# Altium footprint library chip.PcbLib: 89 footprints (part 2 of 6)
Each footprint in its own frame and in the unit in brackets; x right, y up, seen from the top. Pads: shape width x height; smd on the part's side, far side on the other; paste and mask are expansions set on the pad; w line width, h text height; cw(c..) or ccw(c..) is an arc to the next point about the centre after c.
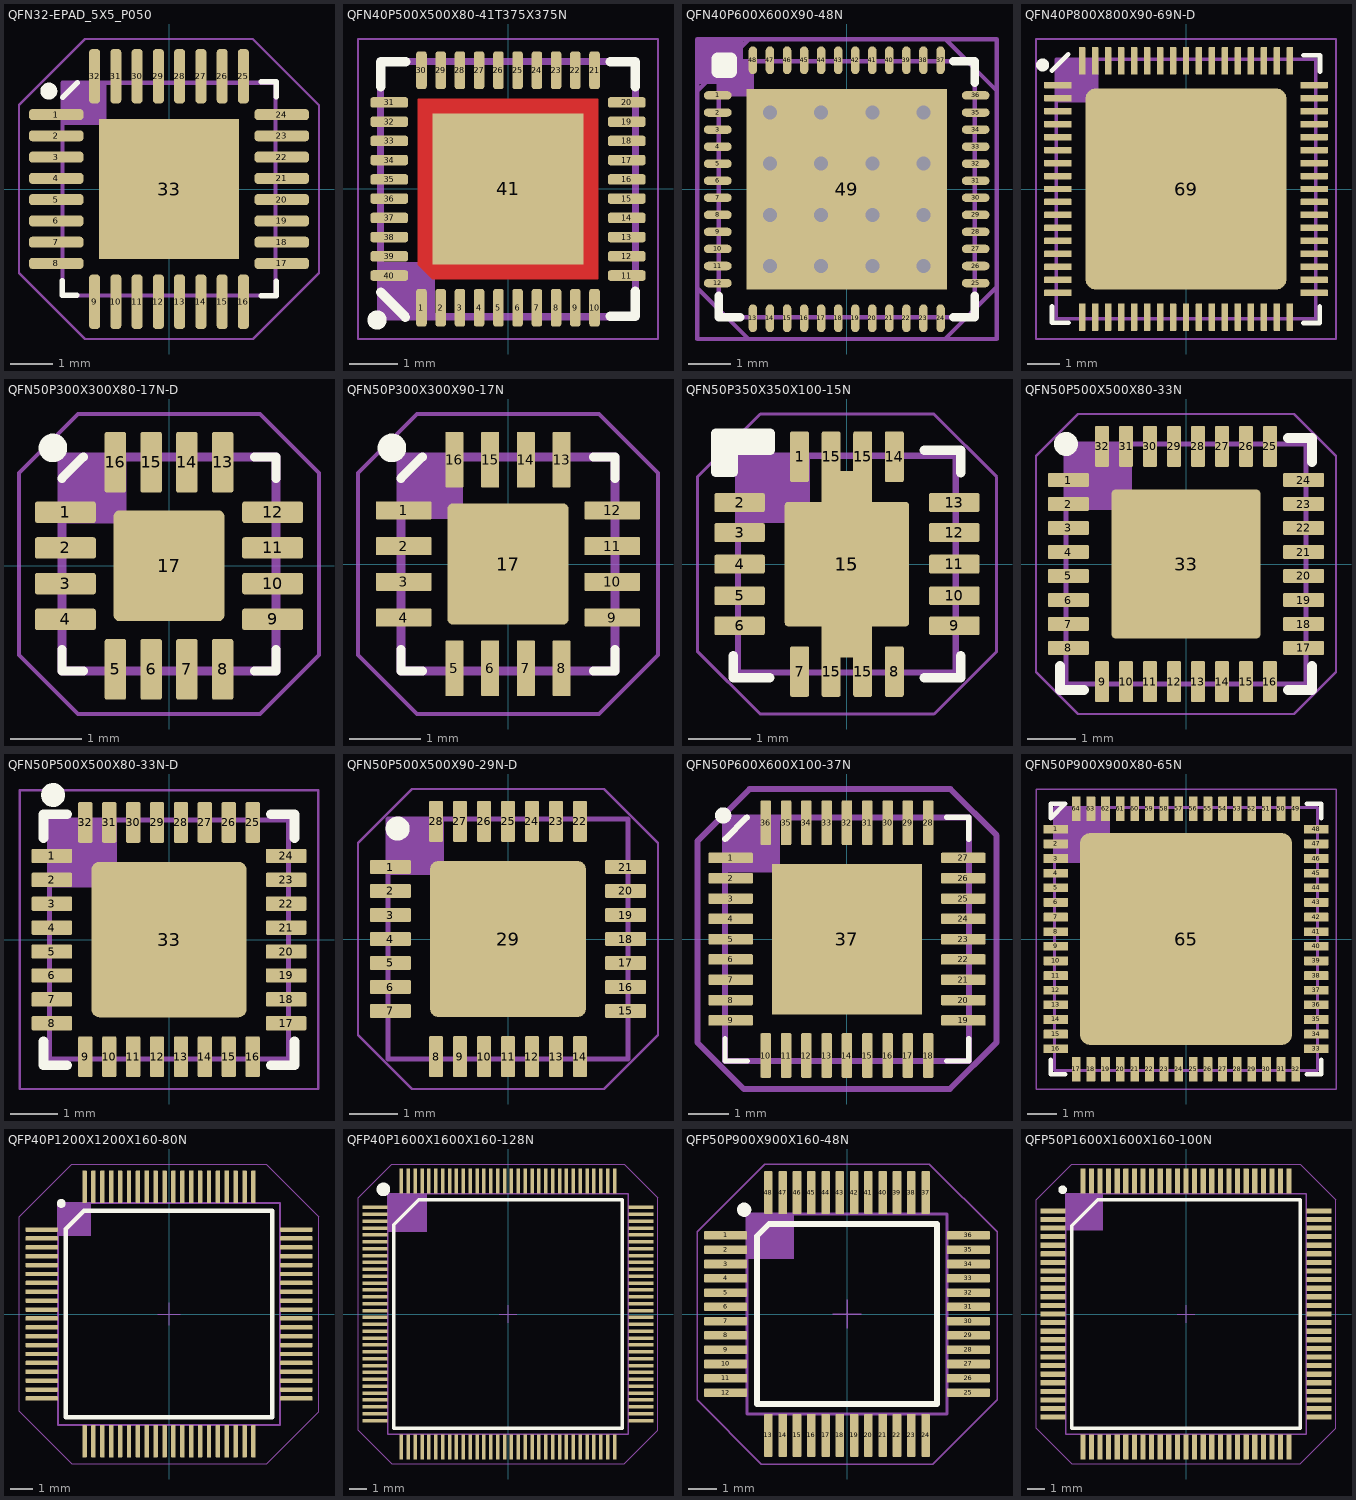
[diagram p1: the footprints below, top view; thin cyan lines are the x and y axes]

## QFN32-EPAD_5X5_P050 [mm] "QFN50P500X500X100-33N"
pads (33):
  rrect70% 1.29x0.26 smd: 1(-2.65,1.75) 2(-2.65,1.25) 3(-2.65,0.75) 4(-2.65,0.25) 5(-2.65,-0.25) 6(-2.65,-0.75) 7(-2.65,-1.25) 8(-2.65,-1.75) 17(2.65,-1.75) 18(2.65,-1.25) 19(2.65,-0.75) 20(2.65,-0.25) 21(2.65,0.25) 22(2.65,0.75) 23(2.65,1.25) 24(2.65,1.75)
  rrect70% 0.26x1.29 smd: 9(-1.75,-2.65) 10(-1.25,-2.65) 11(-0.75,-2.65) 12(-0.25,-2.65) 13(0.25,-2.65) 14(0.75,-2.65) 15(1.25,-2.65) 16(1.75,-2.65) 25(1.75,2.65) 26(1.25,2.65) 27(0.75,2.65) 28(0.25,2.65) 29(-0.25,2.65) 30(-0.75,2.65) 31(-1.25,2.65) 32(-1.75,2.65)
  rect 3.3x3.3 smd paste-0.497: 33(0,0)
Top Overlay:
  circle w0.2: c-2.825,2.3 r0.1
  lines w0.127: -2.513,-2.15 -2.513,-2.5 -2.163,-2.5 ; -2.5,2.15 -2.15,2.5 ; 2.171,2.519 2.521,2.519 2.521,2.169 ; 2.172,-2.511 2.522,-2.511 2.522,-2.161
Top Designator:
  text ".Designator" at -3.024,3.825 h0.6
Top Assembly:
  rectangle: -2.5,1.505 -1.47,2.5
  lines w0.1: -2.5,-2.5 -2.5,2.5 2.5,2.5 2.5,-2.5 -2.5,-2.5
Top Courtyard:
  lines w0.05: -0.5,0 0.5,0 ; 0,-0.5 0,0.5 ; -3.525,-1.975 -1.976,-3.524 1.976,-3.524 3.525,-1.975 3.525,1.968 1.968,3.525 -1.975,3.525 -3.525,1.975 -3.525,-1.975
3D body "step_temp.STEP": height 1, standoff 0, extent -2.5,-2.5 2.5,2.5

## QFN40P500X500X80-41T375X375N [mm]
pads (41):
  rrect55% 0.22x0.79 smd: 1(-1.8,-2.47) 2(-1.4,-2.47) 3(-1,-2.47) 4(-0.6,-2.47) 5(-0.2,-2.47) 6(0.2,-2.47) 7(0.6,-2.47) 8(1,-2.47) 9(1.4,-2.47) 10(1.8,-2.47) 21(1.8,2.47) 22(1.4,2.47) 23(1,2.47) 24(0.6,2.47) 25(0.2,2.47) 26(-0.2,2.47) 27(-0.6,2.47) 28(-1,2.47) 29(-1.4,2.47) 30(-1.8,2.47)
  rrect55% 0.79x0.22 smd: 11(2.47,-1.8) 12(2.47,-1.4) 13(2.47,-1) 14(2.47,-0.6) 15(2.47,-0.2) 16(2.47,0.2) 17(2.47,0.6) 18(2.47,1) 19(2.47,1.4) 20(2.47,1.8) 31(-2.47,1.8) 32(-2.47,1.4) 33(-2.47,1) 34(-2.47,0.6) 35(-2.47,0.2) 36(-2.47,-0.2) 37(-2.47,-0.6) 38(-2.47,-1) 39(-2.47,-1.4) 40(-2.47,-1.8)
  rect 3.15x3.15 smd paste-3.15 mask-3.15: 41(0,0)
Top Layer:
  region: 1.875,-1.875 -1.575,-1.875 -1.875,-1.575 -1.875,1.875 1.875,1.875
Top Overlay:
  circle w0.2: c-2.725,-2.725 r0.1
  lines w0.2: -2.65,2.13 -2.65,2.65 -2.13,2.65 ; -2.65,-2.144 -2.135,-2.665 ; 2.13,-2.65 2.65,-2.65 2.65,-2.13 ; 2.13,2.65 2.65,2.65 2.65,2.13
Top Paste:
  region: -0.185,0.185 -1.515,0.185 -1.515,1.515 -0.185,1.515
  region: -0.185,-1.515 -1.515,-1.515 -1.515,-0.185 -0.185,-0.185
  region: 1.515,0.185 0.185,0.185 0.185,1.515 1.515,1.515
  region: 1.515,-1.515 0.185,-1.515 0.185,-0.185 1.515,-0.185
Top Solder:
  region: 1.875,-1.875 -1.575,-1.875 -1.875,-1.575 -1.875,1.875 1.875,1.875
Top Designator:
  text ".Designator" at -2.924,3.475 h0.6
Top Assembly:
  rectangle: -2.65,-2.657 -1.515,-1.515
  lines w0.15: -2.65,-2.657 -2.65,2.65 2.65,2.65 2.65,-2.657 -2.65,-2.657
Top Courtyard:
  lines w0.05: -0.35,0 0.35,0 ; 0,-0.35 0,0.35 ; -3.12,-3.12 3.12,-3.12 3.12,3.12 -3.12,3.12 -3.12,-3.12
3D body "ACT8945AQJ305-T.stp": height 0.8, standoff 0, extent -2.55,-2.55 2.55,2.55

## QFN40P600X600X90-48N [mm]
pads (49):
  oval 0.65x0.2 smd: 1(-3.025,2.2) 2(-3.025,1.8) 3(-3.025,1.4) 4(-3.025,1) 5(-3.025,0.6) 6(-3.025,0.2) 7(-3.025,-0.2) 8(-3.025,-0.6) 9(-3.025,-1) 10(-3.025,-1.4) 11(-3.025,-1.8) 12(-3.025,-2.2) 25(3.025,-2.2) 26(3.025,-1.8) 27(3.025,-1.4) 28(3.025,-1) 29(3.025,-0.6) 30(3.025,-0.2) 31(3.025,0.2) 32(3.025,0.6) 33(3.025,1) 34(3.025,1.4) 35(3.025,1.8) 36(3.025,2.2)
  oval 0.2x0.65 smd: 13(-2.2,-3.025) 14(-1.8,-3.025) 15(-1.4,-3.025) 16(-1,-3.025) 17(-0.6,-3.025) 18(-0.2,-3.025) 19(0.2,-3.025) 20(0.6,-3.025) 21(1,-3.025) 22(1.4,-3.025) 23(1.8,-3.025) 24(2.2,-3.025) 37(2.2,3.025) 38(1.8,3.025) 39(1.4,3.025) 40(1,3.025) 41(0.6,3.025) 42(0.2,3.025) 43(-0.2,3.025) 44(-0.6,3.025) 45(-1,3.025) 46(-1.4,3.025) 47(-1.8,3.025) 48(-2.2,3.025)
  rect 4.7x4.7 smd: 49(0,0)
via -1.8,1.8 diameter 0.66 hole 0.33
via -0.6,1.8 diameter 0.66 hole 0.33
via 0.6,1.8 diameter 0.66 hole 0.33
via 1.8,1.8 diameter 0.66 hole 0.33
via -1.8,0.6 diameter 0.66 hole 0.33
via -0.6,0.6 diameter 0.66 hole 0.33
via 0.6,0.6 diameter 0.66 hole 0.33
via 1.8,0.6 diameter 0.66 hole 0.33
via -1.8,-0.6 diameter 0.66 hole 0.33
via -0.6,-0.6 diameter 0.66 hole 0.33
via 0.6,-0.6 diameter 0.66 hole 0.33
via 1.8,-0.6 diameter 0.66 hole 0.33
via -1.8,-1.8 diameter 0.66 hole 0.33
via -0.6,-1.8 diameter 0.66 hole 0.33
via 0.6,-1.8 diameter 0.66 hole 0.33
via 1.8,-1.8 diameter 0.66 hole 0.33
Top Overlay:
  lines w0.2: -3,-2.5 -3,-3 -2.5,-3 ; 2.5,-3 3,-3 3,-2.5 ; 2.5,3 3,3 3,2.5
  lines w0.3: -3.024,2.757 -3.024,3.06 -2.726,3.06 -2.726,2.757 -3.024,2.757
Bottom Dimensions:
  rectangle: -3.506,2.474 -2.431,3.524
  lines w0.1: -3.503,-3.511 -3.503,3.518 3.519,3.518 3.519,-3.511 -3.503,-3.511
Top Assembly:
  rectangle: -3.011,2.17 -2.17,3.005
  lines w0.1: -3,-3 -3,3 3,3 3,-3 -3,-3
Top Courtyard:
  lines w0.1: -0.5,0 0.5,0 ; 0,-0.5 0,0.5 ; -3.504,-2.313 -2.306,-3.512 2.301,-3.512 3.515,-2.298 3.515,2.317 2.315,3.517 -2.295,3.517 -3.504,2.308 -3.504,-2.313
3D body "User Library-QFN48.step": height 0.86, standoff -0.01, extent -3.02,-3.02 3.02,3.02

## QFN40P800X800X90-69N-D [mm]
pads (69):
  rrect20% 0.85x0.2 smd: 1(-3.95,3.2) 2(-3.95,2.8) 3(-3.95,2.4) 4(-3.95,2) 5(-3.95,1.6) 6(-3.95,1.2) 7(-3.95,0.8) 8(-3.95,0.4) 9(-3.95,0) 10(-3.95,-0.4) 11(-3.95,-0.8) 12(-3.95,-1.2) 13(-3.95,-1.6) 14(-3.95,-2) 15(-3.95,-2.4) 16(-3.95,-2.8) 17(-3.95,-3.2) 35(3.95,-3.2) 36(3.95,-2.8) 37(3.95,-2.4) 38(3.95,-2) 39(3.95,-1.6) 40(3.95,-1.2) 41(3.95,-0.8) 42(3.95,-0.4) 43(3.95,0) 44(3.95,0.4) 45(3.95,0.8) 46(3.95,1.2) 47(3.95,1.6) 48(3.95,2) 49(3.95,2.4) 50(3.95,2.8) 51(3.95,3.2)
  rrect20% 0.2x0.85 smd: 18(-3.2,-3.95) 19(-2.8,-3.95) 20(-2.4,-3.95) 21(-2,-3.95) 22(-1.6,-3.95) 23(-1.2,-3.95) 24(-0.8,-3.95) 25(-0.4,-3.95) 26(0,-3.95) 27(0.4,-3.95) 28(0.8,-3.95) 29(1.2,-3.95) 30(1.6,-3.95) 31(2,-3.95) 32(2.4,-3.95) 33(2.8,-3.95) 34(3.2,-3.95) 52(3.2,3.95) 53(2.8,3.95) 54(2.4,3.95) 55(2,3.95) 56(1.6,3.95) 57(1.2,3.95) 58(0.8,3.95) 59(0.4,3.95) 60(0,3.95) 61(-0.4,3.95) 62(-0.8,3.95) 63(-1.2,3.95) 64(-1.6,3.95) 65(-2,3.95) 66(-2.4,3.95) 67(-2.8,3.95) 68(-3.2,3.95)
  rrect10% 6.2x6.2 smd: 69(0,0)
Top Overlay:
  circle w0.2: c-4.421,3.824 r0.1
  lines w0.15: -4.135,3.65 -3.631,4.155 ; -4.128,-3.626 -4.128,-4.126 -3.628,-4.126 ; 3.626,-4.128 4.126,-4.128 4.126,-3.628 ; 3.628,4.126 4.128,4.126 4.128,3.626
Top Designator:
  text ".Designator" at -2.986,5.047 h0.6
Top Assembly:
  rectangle: -4,2.66 -2.695,4
  lines w0.1: -4,-4 -4,4 4,4 4,-4 -4,-4
Top Courtyard:
  lines w0.05: -0.5,0 0.5,0 ; 0,-0.475 0,0.525 ; -4.625,-4.625 4.625,-4.625 4.625,4.625 -4.625,4.625 -4.625,-4.625
3D body "UPD720201K8-711-BAC-A.stp": height 0.9, standoff 0, extent -4.05,-4.05 4.05,4.05

## QFN50P300X300X80-17N-D [mm]
pads (17):
  rrect20% 0.85x0.3 smd: 1(-1.45,0.75) 2(-1.45,0.25) 3(-1.45,-0.25) 4(-1.45,-0.75) 9(1.45,-0.75) 10(1.45,-0.25) 11(1.45,0.25) 12(1.45,0.75)
  rrect20% 0.3x0.85 smd: 5(-0.75,-1.45) 6(-0.25,-1.45) 7(0.25,-1.45) 8(0.75,-1.45) 13(0.75,1.45) 14(0.25,1.45) 15(-0.25,1.45) 16(-0.75,1.45)
  rrect10% 1.55x1.55 smd: 17(0,0)
Top Overlay:
  circle w0.2: c-1.625,1.65 r0.1
  lines w0.127: -1.5,-1.175 -1.5,-1.475 -1.2,-1.475 ; -1.5,1.225 -1.2,1.525 ; 1.2,-1.475 1.5,-1.475 1.5,-1.175 ; 1.2,1.525 1.5,1.525 1.5,1.225
Top Designator:
  text ".Designator" at -2.949,2.5 h0.6
Top Assembly:
  rectangle: -1.5,0.595 -0.595,1.525
  lines w0.127: -1.5,-1.475 -1.5,1.525 1.5,1.525 1.5,-1.475 -1.5,-1.475
Top Courtyard:
  lines w0.05: -0.5,0 0.5,0 ; 0,-0.475 0,0.525 ; -2.1,-1.25 -2.1,1.3 -1.275,2.125 1.275,2.125 2.1,1.3 2.1,-1.25 1.275,-2.075 -1.275,-2.075 -2.1,-1.25
3D body "LTC6400IUD-26#TRPBF.stp": height 0.8, standoff 0, extent -1.55,-1.55 1.55,1.55

## QFN50P300X300X90-17N [mm]
pads (17):
  rrect10% 0.78x0.25 smd paste+0 mask+0.05: 1(-1.46,0.75) 2(-1.46,0.25) 3(-1.46,-0.25) 4(-1.46,-0.75) 9(1.46,-0.75) 10(1.46,-0.25) 11(1.46,0.25) 12(1.46,0.75)
  rrect10% 0.25x0.78 smd paste+0 mask+0.05: 5(-0.75,-1.46) 6(-0.25,-1.46) 7(0.25,-1.46) 8(0.75,-1.46) 13(0.75,1.46) 14(0.25,1.46) 15(-0.25,1.46) 16(-0.75,1.46)
  rrect10% 1.7x1.7 smd paste-0.312 mask+0.05: 17(0,0)
Top Overlay:
  circle w0.2: c-1.625,1.625 r0.1
  lines w0.127: -1.5,-1.2 -1.5,-1.5 -1.2,-1.5 ; -1.5,1.2 -1.2,1.5 ; 1.2,-1.5 1.5,-1.5 1.5,-1.2 ; 1.2,1.5 1.5,1.5 1.5,1.2
Top Designator:
  text ".Designator" at -3.124,2.5 h0.6
Top Assembly:
  rectangle: -1.5,0.63 -0.63,1.5
  lines w0.127: -1.5,-1.5 -1.5,1.5 1.5,1.5 1.5,-1.5 -1.5,-1.5
Top Courtyard:
  lines w0.05: -0.5,0 0.5,0 ; 0,-0.5 0,0.5 ; -2.1,-1.275 -2.1,1.275 -1.275,2.1 1.275,2.1 2.1,1.275 2.1,-1.275 1.275,-2.1 -1.275,-2.1 -2.1,-1.275
3D body "XR75100EL-F--3DModel-STEP-510211.STEP": height 0.9, standoff 0, extent -1.5,-1.5 1.5,1.5

## QFN50P350X350X100-15N [mil]
pads (20):
  rrect20% 12x32 smd: 1(-30,68) 7(-30,-68) 8(30,-68) 14(30,68) 15(-10,-68) 15(-10,68) 15(10,-68) 15(10,68)
  rrect20% 32x12 smd: 2(-68,39) 3(-68,20) 4(-68,0) 5(-68,-20) 6(-68,-39) 9(68,-39) 10(68,-20) 11(68,0) 12(68,20) 13(68,39)
  rrect5% 78.74x78.74 smd: 15(0,0)
  rrect20% 31.89x118.11 smd: 15(0,0)
Top Overlay:
  lines w6: -72,-58 -72,-72 -49,-72 ; 49,-72 72,-72 72,-58 ; 49,72 72,72 72,58 ; -83.02,58.13 -72,58.13 -72,72 -48.62,72 -48.62,83.02 -83.02,83.02 -83.02,58.13
  lines w7.87: -77.51,63.51 -77.51,77.51 -54.51,77.51
Top Designator:
  text ".Designator" at -118.07,103.74 h23.62
Top Assembly:
  rectangle: -68.9,26.18 -23.43,68.69
  lines w3.94: -68.9,-68.57 -68.9,68.69 68.9,68.69 68.9,-68.57 -68.9,-68.57
Top Courtyard:
  lines w1.97: -19.68,0 19.68,0 ; 0,-19.68 0,19.69 ; -94.7,-55.16 -54.98,-94.87 55.2,-94.87 94.8,-55.27 94.8,55.31 55.02,95.08 -54.8,95.08 -94.7,55.18 -94.7,-55.16
3D body "TPP206080-QFMR-S.stp": height 35.43, standoff -1.97, extent -68.9,-68.89 68.9,68.9

## QFN50P500X500X80-33N [mm]
pads (33):
  rrect20% 0.85x0.3 smd: 1(-2.45,1.75) 2(-2.45,1.25) 3(-2.45,0.75) 4(-2.45,0.25) 5(-2.45,-0.25) 6(-2.45,-0.75) 7(-2.45,-1.25) 8(-2.45,-1.75) 17(2.45,-1.75) 18(2.45,-1.25) 19(2.45,-0.75) 20(2.45,-0.25) 21(2.45,0.25) 22(2.45,0.75) 23(2.45,1.25) 24(2.45,1.75)
  rrect20% 0.3x0.85 smd: 9(-1.75,-2.45) 10(-1.25,-2.45) 11(-0.75,-2.45) 12(-0.25,-2.45) 13(0.25,-2.45) 14(0.75,-2.45) 15(1.25,-2.45) 16(1.75,-2.45) 25(1.75,2.45) 26(1.25,2.45) 27(0.75,2.45) 28(0.25,2.45) 29(-0.25,2.45) 30(-0.75,2.45) 31(-1.25,2.45) 32(-1.75,2.45)
  rrect5% 3.1x3.1 smd: 33(0,0)
Top Overlay:
  circle w0.25: c-2.5,2.5 r0.125
  lines w0.2: -2.625,-2.125 -2.625,-2.625 -2.125,-2.625 ; 2.125,-2.625 2.625,-2.625 2.625,-2.125 ; 2.125,2.625 2.625,2.625 2.625,2.125
Top Designator:
  text ".Designator" at -2.974,3.425 h0.6
Top Assembly:
  rectangle: -2.5,1.12 -1.12,2.5
  lines w0.1: -2.5,-2.5 -2.5,2.5 2.5,2.5 2.5,-2.5 -2.5,-2.5
Top Courtyard:
  lines w0.05: -0.35,0 0.35,0 ; 0,-0.35 0,0.35 ; -3.125,-2.25 -3.125,2.25 -2.25,3.125 2.25,3.125 3.125,2.25 3.125,-2.25 2.25,-3.125 -2.25,-3.125 -3.125,-2.25
3D body "MAX5980AGTJ+.stp": height 0.8, standoff 0, extent -2.55,-2.55 2.55,2.55

## QFN50P500X500X80-33N-D [mm]
pads (33):
  rrect20% 0.85x0.3 smd: 1(-2.45,1.75) 2(-2.45,1.25) 3(-2.45,0.75) 4(-2.45,0.25) 5(-2.45,-0.25) 6(-2.45,-0.75) 7(-2.45,-1.25) 8(-2.45,-1.75) 17(2.45,-1.75) 18(2.45,-1.25) 19(2.45,-0.75) 20(2.45,-0.25) 21(2.45,0.25) 22(2.45,0.75) 23(2.45,1.25) 24(2.45,1.75)
  rrect20% 0.3x0.85 smd: 9(-1.75,-2.45) 10(-1.25,-2.45) 11(-0.75,-2.45) 12(-0.25,-2.45) 13(0.25,-2.45) 14(0.75,-2.45) 15(1.25,-2.45) 16(1.75,-2.45) 25(1.75,2.45) 26(1.25,2.45) 27(0.75,2.45) 28(0.25,2.45) 29(-0.25,2.45) 30(-0.75,2.45) 31(-1.25,2.45) 32(-1.75,2.45)
  rrect10% 3.25x3.25 smd: 33(0,0)
Top Overlay:
  circle w0.25: c-2.425,3.025 r0.125
  lines w0.2: -2.625,-2.125 -2.625,-2.625 -2.125,-2.625 ; -2.625,2.125 -2.625,2.625 -2.125,2.625 ; 2.125,-2.625 2.625,-2.625 2.625,-2.125 ; 2.125,2.625 2.625,2.625 2.625,2.125
Top Designator:
  text ".Designator" at -3.024,3.425 h0.6
Top Assembly:
  rectangle: -2.5,1.085 -1.085,2.5
  lines w0.1: -2.5,-2.5 -2.5,2 -2.5,2.5 2.5,2.5 2.5,-2.5 -2.5,-2.5
Top Courtyard:
  lines w0.05: -0.35,0 0.35,0 ; 0,-0.35 0,0.35 ; -3.125,-3.125 3.125,-3.125 3.125,3.125 -3.125,3.125 -3.125,-3.125
3D body "AD9744ACPZ.stp": height 0.8, standoff 0, extent -2.55,-2.55 2.55,2.55

## QFN50P500X500X90-29N-D [mm]
pads (29):
  rrect20% 0.85x0.3 smd: 1(-2.45,1.5) 2(-2.45,1) 3(-2.45,0.5) 4(-2.45,0) 5(-2.45,-0.5) 6(-2.45,-1) 7(-2.45,-1.5) 15(2.45,-1.5) 16(2.45,-1) 17(2.45,-0.5) 18(2.45,0) 19(2.45,0.5) 20(2.45,1) 21(2.45,1.5)
  rrect20% 0.3x0.85 smd: 8(-1.5,-2.45) 9(-1,-2.45) 10(-0.5,-2.45) 11(0,-2.45) 12(0.5,-2.45) 13(1,-2.45) 14(1.5,-2.45) 22(1.5,2.45) 23(1,2.45) 24(0.5,2.45) 25(0,2.45) 26(-0.5,2.45) 27(-1,2.45) 28(-1.5,2.45)
  rrect10% 3.25x3.25 smd: 29(0,0)
Top Overlay:
  circle w0.25: c-2.3,2.3 r0.125
Top Designator:
  text ".Designator" at -3.024,3.45 h0.6
Top Assembly:
  rectangle: -2.5,1.33 -1.33,2.5
  lines w0.1: -2.5,-2.5 -2.5,2 -2.5,2.5 2.5,2.5 2.5,-2.5 -2.5,-2.5
Top Courtyard:
  lines w0.05: -0.5,0 0.5,0 ; 0,-0.5 0,0.5 ; -3.125,-2 -2,-3.125 2,-3.125 3.125,-2 3.125,2 2,3.125 -2,3.125 -3.125,2 -3.125,-2
3D body "MCP251863T-E_9PX.stp": height 0.9, standoff 0, extent -2.55,-2.55 2.55,2.55

## QFN50P600X600X100-37N [mm]
height 1
pads (37):
  rrect25% 1.1x0.26 smd: 1(-2.865,2) 2(-2.865,1.5) 3(-2.865,1) 4(-2.865,0.5) 5(-2.865,0) 6(-2.865,-0.5) 7(-2.865,-1) 8(-2.865,-1.5) 9(-2.865,-2) 19(2.865,-2) 20(2.865,-1.5) 21(2.865,-1) 22(2.865,-0.5) 23(2.865,0) 24(2.865,0.5) 25(2.865,1) 26(2.865,1.5) 27(2.865,2)
  rrect25% 0.26x1.1 smd: 10(-2,-2.865) 11(-1.5,-2.865) 12(-1,-2.865) 13(-0.5,-2.865) 14(0,-2.865) 15(0.5,-2.865) 16(1,-2.865) 17(1.5,-2.865) 18(2,-2.865) 28(2,2.865) 29(1.5,2.865) 30(1,2.865) 31(0.5,2.865) 32(0,2.865) 33(-0.5,2.865) 34(-1,2.865) 35(-1.5,2.865) 36(-2,2.865)
  rect 3.7x3.7 smd paste-0.68: 37(0,0)
Top Overlay:
  circle w0.2: c-3.048,3.048 r0.1
  lines w0.127: -3,-2.45 -3,-3 -2.45,-3 ; 2.45,-3 3,-3 3,-2.45 ; 2.45,3 3,3 3,2.45
  lines w0.15: -3,2.465 -2.465,3
Top Designator:
  text ".Designator" at -2.649,4.175 h0.6
Top Assembly:
  rectangle: -2.965,1.645 -1.645,3
  lines w0.15: -3,-3 -3,3 3,3 3,-3 -3,-3
Top Courtyard:
  lines w0.05: -0.5,0 0.5,0 ; 0,-0.5 0,0.5
  lines w0.15: -3.683,-2.544 -2.537,-3.69 2.535,-3.69 3.685,-2.54 3.685,2.555 2.543,3.698 -2.398,3.698 -3.683,2.413 -3.683,-2.544
3D body "step_temp.STEP": height 1, standoff 0, extent -3,-3 3,3

## QFN50P900X900X80-65N [mm]
pads (65):
  rrect20% 0.85x0.3 smd: 1(-4.45,3.75) 2(-4.45,3.25) 3(-4.45,2.75) 4(-4.45,2.25) 5(-4.45,1.75) 6(-4.45,1.25) 7(-4.45,0.75) 8(-4.45,0.25) 9(-4.45,-0.25) 10(-4.45,-0.75) 11(-4.45,-1.25) 12(-4.45,-1.75) 13(-4.45,-2.25) 14(-4.45,-2.75) 15(-4.45,-3.25) 16(-4.45,-3.75) 33(4.45,-3.75) 34(4.45,-3.25) 35(4.45,-2.75) 36(4.45,-2.25) 37(4.45,-1.75) 38(4.45,-1.25) 39(4.45,-0.75) 40(4.45,-0.25) 41(4.45,0.25) 42(4.45,0.75) 43(4.45,1.25) 44(4.45,1.75) 45(4.45,2.25) 46(4.45,2.75) 47(4.45,3.25) 48(4.45,3.75)
  rrect20% 0.3x0.85 smd: 17(-3.75,-4.45) 18(-3.25,-4.45) 19(-2.75,-4.45) 20(-2.25,-4.45) 21(-1.75,-4.45) 22(-1.25,-4.45) 23(-0.75,-4.45) 24(-0.25,-4.45) 25(0.25,-4.45) 26(0.75,-4.45) 27(1.25,-4.45) 28(1.75,-4.45) 29(2.25,-4.45) 30(2.75,-4.45) 31(3.25,-4.45) 32(3.75,-4.45) 49(3.75,4.45) 50(3.25,4.45) 51(2.75,4.45) 52(2.25,4.45) 53(1.75,4.45) 54(1.25,4.45) 55(0.75,4.45) 56(0.25,4.45) 57(-0.25,4.45) 58(-0.75,4.45) 59(-1.25,4.45) 60(-1.75,4.45) 61(-2.25,4.45) 62(-2.75,4.45) 63(-3.25,4.45) 64(-3.75,4.45)
  rrect10% 7.25x7.25 smd: 65(0,0)
Top Overlay:
  lines w0.15: -4.626,-4.127 -4.625,-4.625 -4.127,-4.624 ; 4.127,-4.626 4.625,-4.625 4.624,-4.127 ; 4.127,4.624 4.625,4.625 4.626,4.127 ; -4.625,4.625 -4.624,4.127 -4.127,4.626 -4.625,4.625
Top Designator:
  text ".Designator" at -2.999,5.5 h0.6
Top Assembly:
  rectangle: -4.5,2.59 -2.59,4.5
  lines w0.1: -4.5,-4.5 -4.5,4 -4.5,4.5 4.5,4.5 4.5,-4.5 -4.5,-4.5
Top Courtyard:
  lines w0.05: -0.5,0 0.5,0 ; 0,-0.5 0,0.5 ; -5.125,-5.125 5.125,-5.125 5.125,5.125 -5.125,5.125 -5.125,-5.125
3D body "LTC2208CUPPBF.stp": height 0.8, standoff 0, extent -4.55,-4.55 4.55,4.55

## QFP40P1200X1200X160-80N [mm]
pads (80):
  rrect20% 1.45x0.2 smd: 1(-5.725,3.8) 2(-5.725,3.4) 3(-5.725,3) 4(-5.725,2.6) 5(-5.725,2.2) 6(-5.725,1.8) 7(-5.725,1.4) 8(-5.725,1) 9(-5.725,0.6) 10(-5.725,0.2) 11(-5.725,-0.2) 12(-5.725,-0.6) 13(-5.725,-1) 14(-5.725,-1.4) 15(-5.725,-1.8) 16(-5.725,-2.2) 17(-5.725,-2.6) 18(-5.725,-3) 19(-5.725,-3.4) 20(-5.725,-3.8) 41(5.725,-3.8) 42(5.725,-3.4) 43(5.725,-3) 44(5.725,-2.6) 45(5.725,-2.2) 46(5.725,-1.8) 47(5.725,-1.4) 48(5.725,-1) 49(5.725,-0.6) 50(5.725,-0.2) 51(5.725,0.2) 52(5.725,0.6) 53(5.725,1) 54(5.725,1.4) 55(5.725,1.8) 56(5.725,2.2) 57(5.725,2.6) 58(5.725,3) 59(5.725,3.4) 60(5.725,3.8)
  rrect20% 0.2x1.45 smd: 21(-3.8,-5.725) 22(-3.4,-5.725) 23(-3,-5.725) 24(-2.6,-5.725) 25(-2.2,-5.725) 26(-1.8,-5.725) 27(-1.4,-5.725) 28(-1,-5.725) 29(-0.6,-5.725) 30(-0.2,-5.725) 31(0.2,-5.725) 32(0.6,-5.725) 33(1,-5.725) 34(1.4,-5.725) 35(1.8,-5.725) 36(2.2,-5.725) 37(2.6,-5.725) 38(3,-5.725) 39(3.4,-5.725) 40(3.8,-5.725) 61(3.8,5.725) 62(3.4,5.725) 63(3,5.725) 64(2.6,5.725) 65(2.2,5.725) 66(1.8,5.725) 67(1.4,5.725) 68(1,5.725) 69(0.6,5.725) 70(0.2,5.725) 71(-0.2,5.725) 72(-0.6,5.725) 73(-1,5.725) 74(-1.4,5.725) 75(-1.8,5.725) 76(-2.2,5.725) 77(-2.6,5.725) 78(-3,5.725) 79(-3.4,5.725) 80(-3.8,5.725)
Top Overlay:
  circle w0.2: c-4.85,4.975 r0.1
  lines w0.2: -4.65,-4.65 4.65,-4.65 4.65,4.65 -3.825,4.65 -4.65,3.825 -4.65,-4.65
Top Designator:
  text ".Designator" at -5.824,7.325 h0.6
Top Assembly:
  rectangle: -5,3.5 -3.5,5
  lines w0.1: -5,-5 -5,5 5,5 5,-5 -5,-5
Top Courtyard:
  lines w0.05: -0.5,0 0.5,0 ; 0,-0.5 0,0.5 ; -6.75,-4.375 -4.375,-6.75 4.4,-6.75 6.75,-4.4 6.75,4.375 4.375,6.75 -4.375,6.75 -6.75,4.375 -6.75,-4.375
3D body "KSZ8795CLXCC.stp": height 1.6, standoff 0, extent -6,-6 6,6

## QFP40P1600X1600X160-128N [mm]
pads (128):
  rrect20% 1.475x0.2 smd: 1(-7.738,6.2) 2(-7.738,5.8) 3(-7.738,5.4) 4(-7.738,5) 5(-7.738,4.6) 6(-7.738,4.2) 7(-7.738,3.8) 8(-7.738,3.4) 9(-7.738,3) 10(-7.738,2.6) 11(-7.738,2.2) 12(-7.738,1.8) 13(-7.738,1.4) 14(-7.738,1) 15(-7.738,0.6) 16(-7.738,0.2) 17(-7.738,-0.2) 18(-7.738,-0.6) 19(-7.738,-1) 20(-7.738,-1.4) 21(-7.738,-1.8) 22(-7.738,-2.2) 23(-7.738,-2.6) 24(-7.738,-3) 25(-7.738,-3.4) 26(-7.738,-3.8) 27(-7.738,-4.2) 28(-7.738,-4.6) 29(-7.738,-5) 30(-7.738,-5.4) 31(-7.738,-5.8) 32(-7.738,-6.2) 65(7.738,-6.2) 66(7.738,-5.8) 67(7.738,-5.4) 68(7.738,-5) 69(7.738,-4.6) 70(7.738,-4.2) 71(7.738,-3.8) 72(7.738,-3.4) 73(7.738,-3) 74(7.738,-2.6) 75(7.738,-2.2) 76(7.738,-1.8) 77(7.738,-1.4) 78(7.738,-1) 79(7.738,-0.6) 80(7.738,-0.2) 81(7.738,0.2) 82(7.738,0.6) 83(7.738,1) 84(7.738,1.4) 85(7.738,1.8) 86(7.738,2.2) 87(7.738,2.6) 88(7.738,3) 89(7.738,3.4) 90(7.738,3.8) 91(7.738,4.2) 92(7.738,4.6) 93(7.738,5) 94(7.738,5.4) 95(7.738,5.8) 96(7.738,6.2)
  rrect20% 0.2x1.475 smd: 33(-6.2,-7.738) 34(-5.8,-7.738) 35(-5.4,-7.738) 36(-5,-7.738) 37(-4.6,-7.738) 38(-4.2,-7.738) 39(-3.8,-7.738) 40(-3.4,-7.738) 41(-3,-7.738) 42(-2.6,-7.738) 43(-2.2,-7.738) 44(-1.8,-7.738) 45(-1.4,-7.738) 46(-1,-7.738) 47(-0.6,-7.738) 48(-0.2,-7.738) 49(0.2,-7.738) 50(0.6,-7.738) 51(1,-7.738) 52(1.4,-7.738) 53(1.8,-7.738) 54(2.2,-7.738) 55(2.6,-7.738) 56(3,-7.738) 57(3.4,-7.738) 58(3.8,-7.738) 59(4.2,-7.738) 60(4.6,-7.738) 61(5,-7.738) 62(5.4,-7.738) 63(5.8,-7.738) 64(6.2,-7.738) 97(6.2,7.738) 98(5.8,7.738) 99(5.4,7.738) 100(5,7.738) 101(4.6,7.738) 102(4.2,7.738) 103(3.8,7.738) 104(3.4,7.738) 105(3,7.738) 106(2.6,7.738) 107(2.2,7.738) 108(1.8,7.738) 109(1.4,7.738) 110(1,7.738) 111(0.6,7.738) 112(0.2,7.738) 113(-0.2,7.738) 114(-0.6,7.738) 115(-1,7.738) 116(-1.4,7.738) 117(-1.8,7.738) 118(-2.2,7.738) 119(-2.6,7.738) 120(-3,7.738) 121(-3.4,7.738) 122(-3.8,7.738) 123(-4.2,7.738) 124(-4.6,7.738) 125(-5,7.738) 126(-5.4,7.738) 127(-5.8,7.738) 128(-6.2,7.738)
Top Overlay:
  circle w0.4: c-7.25,7.25 r0.2
  lines w0.2: -6.65,-6.65 -6.65,5.2 -5.2,6.65 6.65,6.65 6.65,-6.65 -6.65,-6.65
Top Designator:
  text ".Designator" at -6.399,9.2 h0.6
Top Assembly:
  rectangle: -7,4.76 -4.725,7
  lines w0.1: -7,-7 -7,7 7,7 7,-7 -7,-7
Top Courtyard:
  lines w0.05: -0.5,0 0.5,0 ; 0,-0.5 0,0.5 ; -8.725,-6.775 -6.775,-8.725 6.775,-8.725 8.725,-6.775 8.725,6.775 6.775,8.725 -6.775,8.725 -8.725,6.775 -8.725,-6.775
3D body "RTL8367S-CG.stp": height 1.6, standoff 0, extent -8,-8 8,8

## QFP50P900X900X160-48N [mm]
pads (48):
  rrect20% 1.5x0.3 smd: 1(-4.25,2.75) 2(-4.25,2.25) 3(-4.25,1.75) 4(-4.25,1.25) 5(-4.25,0.75) 6(-4.25,0.25) 7(-4.25,-0.25) 8(-4.25,-0.75) 9(-4.25,-1.25) 10(-4.25,-1.75) 11(-4.25,-2.25) 12(-4.25,-2.75) 25(4.25,-2.75) 26(4.25,-2.25) 27(4.25,-1.75) 28(4.25,-1.25) 29(4.25,-0.75) 30(4.25,-0.25) 31(4.25,0.25) 32(4.25,0.75) 33(4.25,1.25) 34(4.25,1.75) 35(4.25,2.25) 36(4.25,2.75)
  rrect20% 0.3x1.5 smd: 13(-2.75,-4.25) 14(-2.25,-4.25) 15(-1.75,-4.25) 16(-1.25,-4.25) 17(-0.75,-4.25) 18(-0.25,-4.25) 19(0.25,-4.25) 20(0.75,-4.25) 21(1.25,-4.25) 22(1.75,-4.25) 23(2.25,-4.25) 24(2.75,-4.25) 37(2.75,4.25) 38(2.25,4.25) 39(1.75,4.25) 40(1.25,4.25) 41(0.75,4.25) 42(0.25,4.25) 43(-0.25,4.25) 44(-0.75,4.25) 45(-1.25,4.25) 46(-1.75,4.25) 47(-2.25,4.25) 48(-2.75,4.25)
Top Overlay:
  circle w0.25: c-3.6,3.65 r0.125
  lines w0.2: -3.15,-3.15 3.15,-3.15 3.15,3.15 -2.725,3.15 -3.15,2.725 -3.15,-3.15
Top Designator:
  text ".Designator" at -4.174,5.725 h0.6
Top Assembly:
  rectangle: -3.5,1.925 -1.855,3.5
  lines w0.1: -3.5,-2.825 -4.425,-2.825 -4.425,-2.675 -3.5,-2.675 ; -3.5,-2.325 -4.425,-2.325 -4.425,-2.175 -3.5,-2.175 ; -3.5,-1.825 -4.425,-1.825 -4.425,-1.675 -3.5,-1.675 ; -3.5,-1.325 -4.425,-1.325 -4.425,-1.175 -3.5,-1.175 ; -3.5,-0.825 -4.425,-0.825 -4.425,-0.675 -3.5,-0.675 ; -3.5,-0.325 -4.425,-0.325 -4.425,-0.175 -3.5,-0.175 ; -3.5,0.175 -4.425,0.175 -4.425,0.325 -3.5,0.325 ; -3.5,0.675 -4.425,0.675 -4.425,0.825 -3.5,0.825 ; -3.5,1.175 -4.425,1.175 -4.425,1.325 -3.5,1.325 ; -3.5,1.675 -4.425,1.675 -4.425,1.825 -3.5,1.825 ; -3.5,2.175 -4.425,2.175 -4.425,2.325 -3.5,2.325 ; -3.5,2.675 -4.425,2.675 -4.425,2.825 -3.5,2.825 ; -2.825,-3.5 -2.825,-4.425 -2.675,-4.425 -2.675,-3.5 ; -2.825,3.5 -2.825,4.425 -2.675,4.425 -2.675,3.5 ; -2.325,-3.5 -2.325,-4.425 -2.175,-4.425 -2.175,-3.5 ; -2.325,3.5 -2.325,4.425 -2.175,4.425 -2.175,3.5 ; -1.825,-3.5 -1.825,-4.425 -1.675,-4.425 -1.675,-3.5 ; -1.825,3.5 -1.825,4.425 -1.675,4.425 -1.675,3.5 ; -1.325,-3.5 -1.325,-4.425 -1.175,-4.425 -1.175,-3.5 ; -1.325,3.5 -1.325,4.425 -1.175,4.425 -1.175,3.5 ; -0.825,-3.5 -0.825,-4.425 -0.675,-4.425 -0.675,-3.5 ; -0.825,3.5 -0.825,4.425 -0.675,4.425 -0.675,3.5 ; -0.325,-3.5 -0.325,-4.425 -0.175,-4.425 -0.175,-3.5 ; -0.325,3.5 -0.325,4.425 -0.175,4.425 -0.175,3.5 ; 0.175,-3.5 0.175,-4.425 0.325,-4.425 0.325,-3.5 ; 0.175,3.5 0.175,4.425 0.325,4.425 0.325,3.5 ; 0.675,-3.5 0.675,-4.425 0.825,-4.425 0.825,-3.5 ; 0.675,3.5 0.675,4.425 0.825,4.425 0.825,3.5 ; 1.175,-3.5 1.175,-4.425 1.325,-4.425 1.325,-3.5 ; 1.175,3.5 1.175,4.425 1.325,4.425 1.325,3.5 ; 1.675,-3.5 1.675,-4.425 1.825,-4.425 1.825,-3.5 ; 1.675,3.5 1.675,4.425 1.825,4.425 1.825,3.5 ; 2.175,-3.5 2.175,-4.425 2.325,-4.425 2.325,-3.5 ; 2.175,3.5 2.175,4.425 2.325,4.425 2.325,3.5 ; 2.675,-3.5 2.675,-4.425 2.825,-4.425 2.825,-3.5 ; 2.675,3.5 2.675,4.425 2.825,4.425 2.825,3.5 ; 3.525,-2.825 4.45,-2.825 4.45,-2.675 3.525,-2.675 ; 3.525,-2.325 4.45,-2.325 4.45,-2.175 3.525,-2.175 ; 3.525,-1.825 4.45,-1.825 4.45,-1.675 3.525,-1.675 ; 3.525,-1.325 4.45,-1.325 4.45,-1.175 3.525,-1.175 ; 3.525,-0.825 4.45,-0.825 4.45,-0.675 3.525,-0.675 ; 3.525,-0.325 4.45,-0.325 4.45,-0.175 3.525,-0.175 ; 3.525,0.175 4.45,0.175 4.45,0.325 3.525,0.325 ; 3.525,0.675 4.45,0.675 4.45,0.825 3.525,0.825 ; 3.525,1.175 4.45,1.175 4.45,1.325 3.525,1.325 ; 3.525,1.675 4.45,1.675 4.45,1.825 3.525,1.825 ; 3.525,2.175 4.45,2.175 4.45,2.325 3.525,2.325 ; 3.525,2.675 4.45,2.675 4.45,2.825 3.525,2.825 ; -3.5,-3.5 3.5,-3.5 3.5,3.5 -3.5,3.5 -3.5,-3.5
Top Courtyard:
  lines w0.05: -0.5,0 0.5,0 ; 0,-0.5 0,0.5 ; -5.25,-3 -3,-5.25 3,-5.25 5.25,-3 5.25,2.875 2.875,5.25 -2.875,5.25 -5.25,2.875 -5.25,-3
3D body "IP101GA.stp": height 1.6, standoff 0, extent -4.5,-4.5 4.5,4.5

## QFP50P1600X1600X160-100N [mm]
pads (100):
  rrect20% 1.475x0.3 smd: 1(-7.738,6) 2(-7.738,5.5) 3(-7.738,5) 4(-7.738,4.5) 5(-7.738,4) 6(-7.738,3.5) 7(-7.738,3) 8(-7.738,2.5) 9(-7.738,2) 10(-7.738,1.5) 11(-7.738,1) 12(-7.738,0.5) 13(-7.738,0) 14(-7.738,-0.5) 15(-7.738,-1) 16(-7.738,-1.5) 17(-7.738,-2) 18(-7.738,-2.5) 19(-7.738,-3) 20(-7.738,-3.5) 21(-7.738,-4) 22(-7.738,-4.5) 23(-7.738,-5) 24(-7.738,-5.5) 25(-7.738,-6) 51(7.738,-6) 52(7.738,-5.5) 53(7.738,-5) 54(7.738,-4.5) 55(7.738,-4) 56(7.738,-3.5) 57(7.738,-3) 58(7.738,-2.5) 59(7.738,-2) 60(7.738,-1.5) 61(7.738,-1) 62(7.738,-0.5) 63(7.738,0) 64(7.738,0.5) 65(7.738,1) 66(7.738,1.5) 67(7.738,2) 68(7.738,2.5) 69(7.738,3) 70(7.738,3.5) 71(7.738,4) 72(7.738,4.5) 73(7.738,5) 74(7.738,5.5) 75(7.738,6)
  rrect20% 0.3x1.475 smd: 26(-6,-7.738) 27(-5.5,-7.738) 28(-5,-7.738) 29(-4.5,-7.738) 30(-4,-7.738) 31(-3.5,-7.738) 32(-3,-7.738) 33(-2.5,-7.738) 34(-2,-7.738) 35(-1.5,-7.738) 36(-1,-7.738) 37(-0.5,-7.738) 38(0,-7.738) 39(0.5,-7.738) 40(1,-7.738) 41(1.5,-7.738) 42(2,-7.738) 43(2.5,-7.738) 44(3,-7.738) 45(3.5,-7.738) 46(4,-7.738) 47(4.5,-7.738) 48(5,-7.738) 49(5.5,-7.738) 50(6,-7.738) 76(6,7.738) 77(5.5,7.738) 78(5,7.738) 79(4.5,7.738) 80(4,7.738) 81(3.5,7.738) 82(3,7.738) 83(2.5,7.738) 84(2,7.738) 85(1.5,7.738) 86(1,7.738) 87(0.5,7.738) 88(0,7.738) 89(-0.5,7.738) 90(-1,7.738) 91(-1.5,7.738) 92(-2,7.738) 93(-2.5,7.738) 94(-3,7.738) 95(-3.5,7.738) 96(-4,7.738) 97(-4.5,7.738) 98(-5,7.738) 99(-5.5,7.738) 100(-6,7.738)
Top Overlay:
  circle w0.25: c-7.175,7.225 r0.125
  lines w0.2: -6.65,-6.65 6.65,-6.65 6.65,6.65 -5.125,6.65 -6.65,5.125 -6.65,-6.65
Top Designator:
  text ".Designator" at -6.399,9.2 h0.6
Top Assembly:
  rectangle: -7,4.865 -4.83,7
  lines w0.1: -7,-7 7,-7 7,7 -7,7 -7,-7
Top Courtyard:
  lines w0.05: -0.5,0 0.5,0 ; 0,-0.5 0,0.5 ; -8.725,-6.65 -6.65,-8.725 6.65,-8.725 8.725,-6.65 8.725,6.65 6.65,8.725 -6.65,8.725 -8.725,6.65 -8.725,-6.65
3D body "STM32F407VET6TR.stp": height 1.6, standoff 0, extent -8,-8 8,8